# Altium schematic symbol library SCH - DRIVER - LED - TI LP8556SQ-E00.SchLib: 1 symbol
Pins are listed as number, name and electrical type; pins without a type are passive.

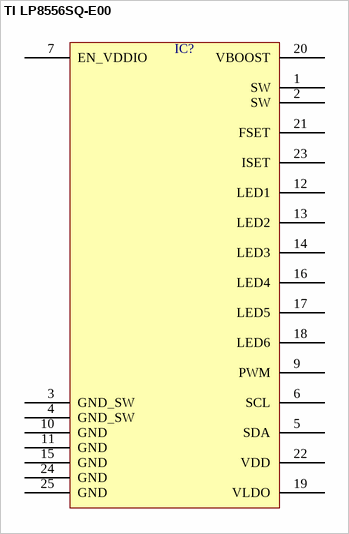
[diagram p0: symbol TI LP8556SQ-E00]

## TI LP8556SQ-E00
designator IC?  (value not drawn)
pins: 1 SW, 2 SW, 3 GND_SW, 4 GND_SW, 5 SDA, 6 SCL, 7 EN_VDDIO, 9 PWM, 10 GND, 11 GND, 12 LED1, 13 LED2, 14 LED3, 15 GND, 16 LED4, 17 LED5, 18 LED6, 19 VLDO, 20 VBOOST, 21 FSET, 22 VDD, 23 ISET, 24 GND, 25 GND